# Altium footprint library K210-Main-Board.PcbLib: 4 footprints
Each footprint in its own frame and in the unit in brackets; x right, y up, seen from the top. Pads: shape width x height; smd on the part's side, far side on the other; paste and mask are expansions set on the pad; w line width, h text height; cw(c..) or ccw(c..) is an arc to the next point about the centre after c.
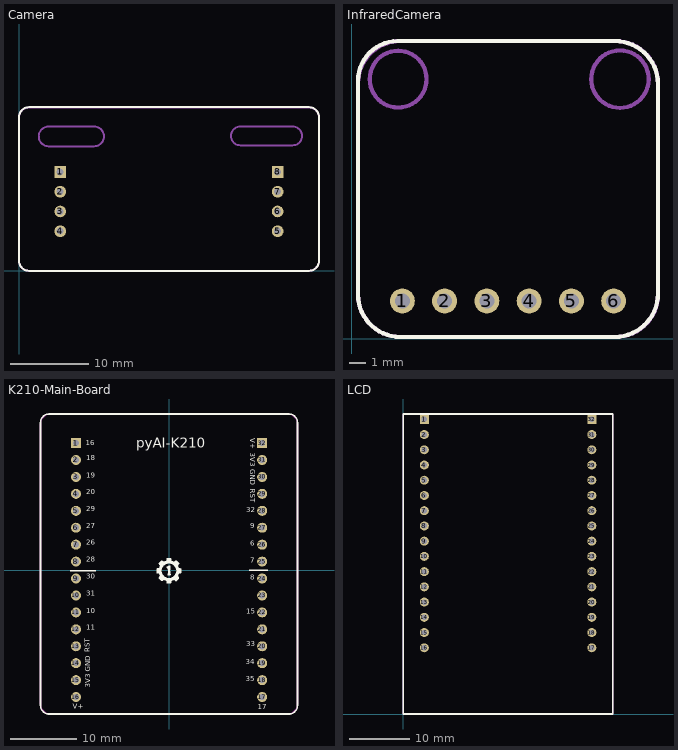
[diagram p0: the footprints below, top view; thin cyan lines are the x and y axes]

## Camera [mm]
pads (8):
  rect 1.5x1.5 hole 0.9: 1(5.3,12.709) 8(33.24,12.709)
  round 1.5 hole 0.9: 2(5.3,10.169) 3(5.3,7.629) 4(5.3,5.089) 5(33.24,5.089) 6(33.24,7.629) 7(33.24,10.169)
Top Overlay:
  lines w0.254: 0,1.397 0,19.758 cw(c1.27,19.758) 1.27,21.028 37.287,21.028 cw(c37.287,19.758) 38.557,19.758 38.557,1.27 cw(c37.287,1.27) 37.287,0 1.27,0 cw(c1.27,1.27) 0,1.27 0,1.778
Mechanical 1:
  lines w0.254: 0,1.27 ccw(c1.27,1.27) 1.27,0 37.27,0 ccw(c37.27,1.27) 38.54,1.27 38.54,19.73 ccw(c37.27,19.73) 37.27,21 1.27,21 ccw(c1.27,19.73) 0,19.73 0,1.27 ; 2.54,17.272 cw(c3.81,17.272) 3.81,18.542 9.652,18.542 cw(c9.652,17.272) 10.922,17.272 cw(c9.652,17.272) 9.652,16.002 3.81,16.002 cw(c3.81,17.272) 2.54,17.272 ; 27.241,17.335 cw(c28.448,17.335) 28.448,18.542 35.179,18.542 cw(c35.179,17.335) 36.386,17.335 cw(c35.179,17.335) 35.179,16.129 28.448,16.129 cw(c28.448,17.335) 27.241,17.335

## InfraredCamera [mm]
pads (6):
  round 1.5 hole 0.9: 1(3.048,2.286) 2(5.588,2.286) 3(8.128,2.286) 4(10.668,2.286) 5(13.208,2.286) 6(15.748,2.286)
Top Overlay:
  lines w0.254: 0.381,2.667 ccw(c2.921,2.667) 2.921,0.127 15.813,0.127 ccw(c15.813,2.729) 18.415,2.729 18.415,15.32 ccw(c15.828,15.32) 15.828,17.907 2.762,17.907 ccw(c2.762,15.526) 0.381,15.526 0.381,2.667
Mechanical 1:
  circle w0.254: c2.794,15.621 r1.709
  circle w0.254: c16.129,15.621 r1.727
  lines w0.254: 0.381,2.667 ccw(c2.921,2.667) 2.921,0.127 15.875,0.127 ccw(c15.875,2.667) 18.415,2.667 18.415,15.367 ccw(c15.875,15.367) 15.875,17.907 2.921,17.907 ccw(c2.921,15.367) 0.381,15.367 0.381,2.667

## K210-Main-Board [mm]
pads (32):
  rect 1.5x1.5 hole 0.9: 1(-13.97,19.05) 32(13.97,19.05)
  round 1.5 hole 0.9: 2(-13.97,16.51) 3(-13.97,13.97) 4(-13.97,11.43) 5(-13.97,8.89) 6(-13.97,6.35) 7(-13.97,3.81) 8(-13.97,1.27) 9(-13.97,-1.27) 10(-13.97,-3.81) 11(-13.97,-6.35) 12(-13.97,-8.89) 13(-13.97,-11.43) 14(-13.97,-13.97) 15(-13.97,-16.51) 16(-13.97,-19.05) 17(13.97,-19.05) 18(13.97,-16.51) 19(13.97,-13.97) 20(13.97,-11.43) 21(13.97,-8.89) 22(13.97,-6.35) 23(13.97,-3.81) 24(13.97,-1.27) 25(13.97,1.27) 26(13.97,3.81) 27(13.97,6.35) 28(13.97,8.89) 29(13.97,11.43) 30(13.97,13.97) 31(13.97,16.51)
Top Overlay:
  drawing of 335 lines, arcs and shapes, not listed
  text "16" at -12.521,18.432 h1.27
  text "18" at -12.444,16.138 h1.27
  text "19" at -12.394,13.583 h1.27
  text "20" at -12.418,11.087 h1.27
  text "29" at -12.394,8.529 h1.27
  text "27" at -12.413,6.007 h1.27
  text "26" at -12.419,3.488 h1.27
  text "28" at -12.419,0.948 h1.27
  text "30" at -12.394,-1.617 h1.27
  text "31" at -12.394,-4.182 h1.27
  text "10" at -12.394,-6.773 h1.27
  text "11" at -12.419,-9.237 h1.27
  text "RST" at -11.566,-12.317 h1.27
  text "GND" at -11.54,-15.238 h1.27
  text "3V3" at -11.551,-17.651 h1.27
  text "V+" at 11.89,19.76 h1.27
  text "3V3" at 11.913,17.601 h1.27
  text "GND" at 11.876,15.111 h1.27
  text "RST" at 11.876,12.216 h1.27
  text "32" at 11.564,8.391 h1.27
  text "9" at 12.186,5.952 h1.27
  text "6" at 12.186,3.336 h1.27
  text "7" at 12.171,0.821 h1.27
  text "8" at 12.168,-1.744 h1.27
  text "15" at 11.565,-6.824 h1.27
  text "33" at 11.556,-11.752 h1.27
  text "34" at 11.508,-14.444 h1.27
  text "35" at 11.517,-17.009 h1.27
  text "17" at 13.337,-21.2 h1.27
  text "pyAI-K210" at -4.902,17.856 h2.54
  text "V+" at -14.476,-21.073 h1.27
Keep-Out Layer:
  lines w0.254: -19.279,21.907 cw(c-17.779,21.907) -17.779,23.407 ; -19.279,21.91 -19.279,-20.09 ccw(c-17.779,-20.09) -17.779,-21.59 17.761,-21.59 ; -17.779,23.41 17.761,23.41 ; 17.759,-21.59 ccw(c17.759,-20.09) 19.259,-20.09 ; 17.759,23.407 cw(c17.759,21.907) 19.259,21.907 ; 19.261,-20.09 19.261,21.91

## LCD [mm]
pads (32):
  rect 1.5x1.5 hole 0.9: 1(3.511,49.149) 32(31.451,49.149)
  round 1.5 hole 0.9: 2(3.511,46.609) 3(3.511,44.069) 4(3.511,41.529) 5(3.511,38.989) 6(3.511,36.449) 7(3.511,33.909) 8(3.511,31.369) 9(3.511,28.829) 10(3.511,26.289) 11(3.511,23.749) 12(3.511,21.209) 13(3.511,18.669) 14(3.511,16.129) 15(3.511,13.589) 16(3.511,11.049) 17(31.451,11.049) 18(31.451,13.589) 19(31.451,16.129) 20(31.451,18.669) 21(31.451,21.209) 22(31.451,23.749) 23(31.451,26.289) 24(31.451,28.829) 25(31.451,31.369) 26(31.451,33.909) 27(31.451,36.449) 28(31.451,38.989) 29(31.451,41.529) 30(31.451,44.069) 31(31.451,46.609)
Top Overlay:
  lines w0.254: 0,0 34.925,0 34.925,50.038 0,50.038 0,0
Mechanical 1:
  lines w0.254: 0,0 0,49.961 34.928,49.961 34.928,0 0,0